# Altium footprint library WE-FI.PcbLib: 47 footprints (part 1 of 3)
Each footprint in its own frame and in the unit in brackets; x right, y up, seen from the top. Pads: shape width x height; smd on the part's side, far side on the other; paste and mask are expansions set on the pad; w line width, h text height; cw(c..) or ccw(c..) is an arc to the next point about the centre after c.
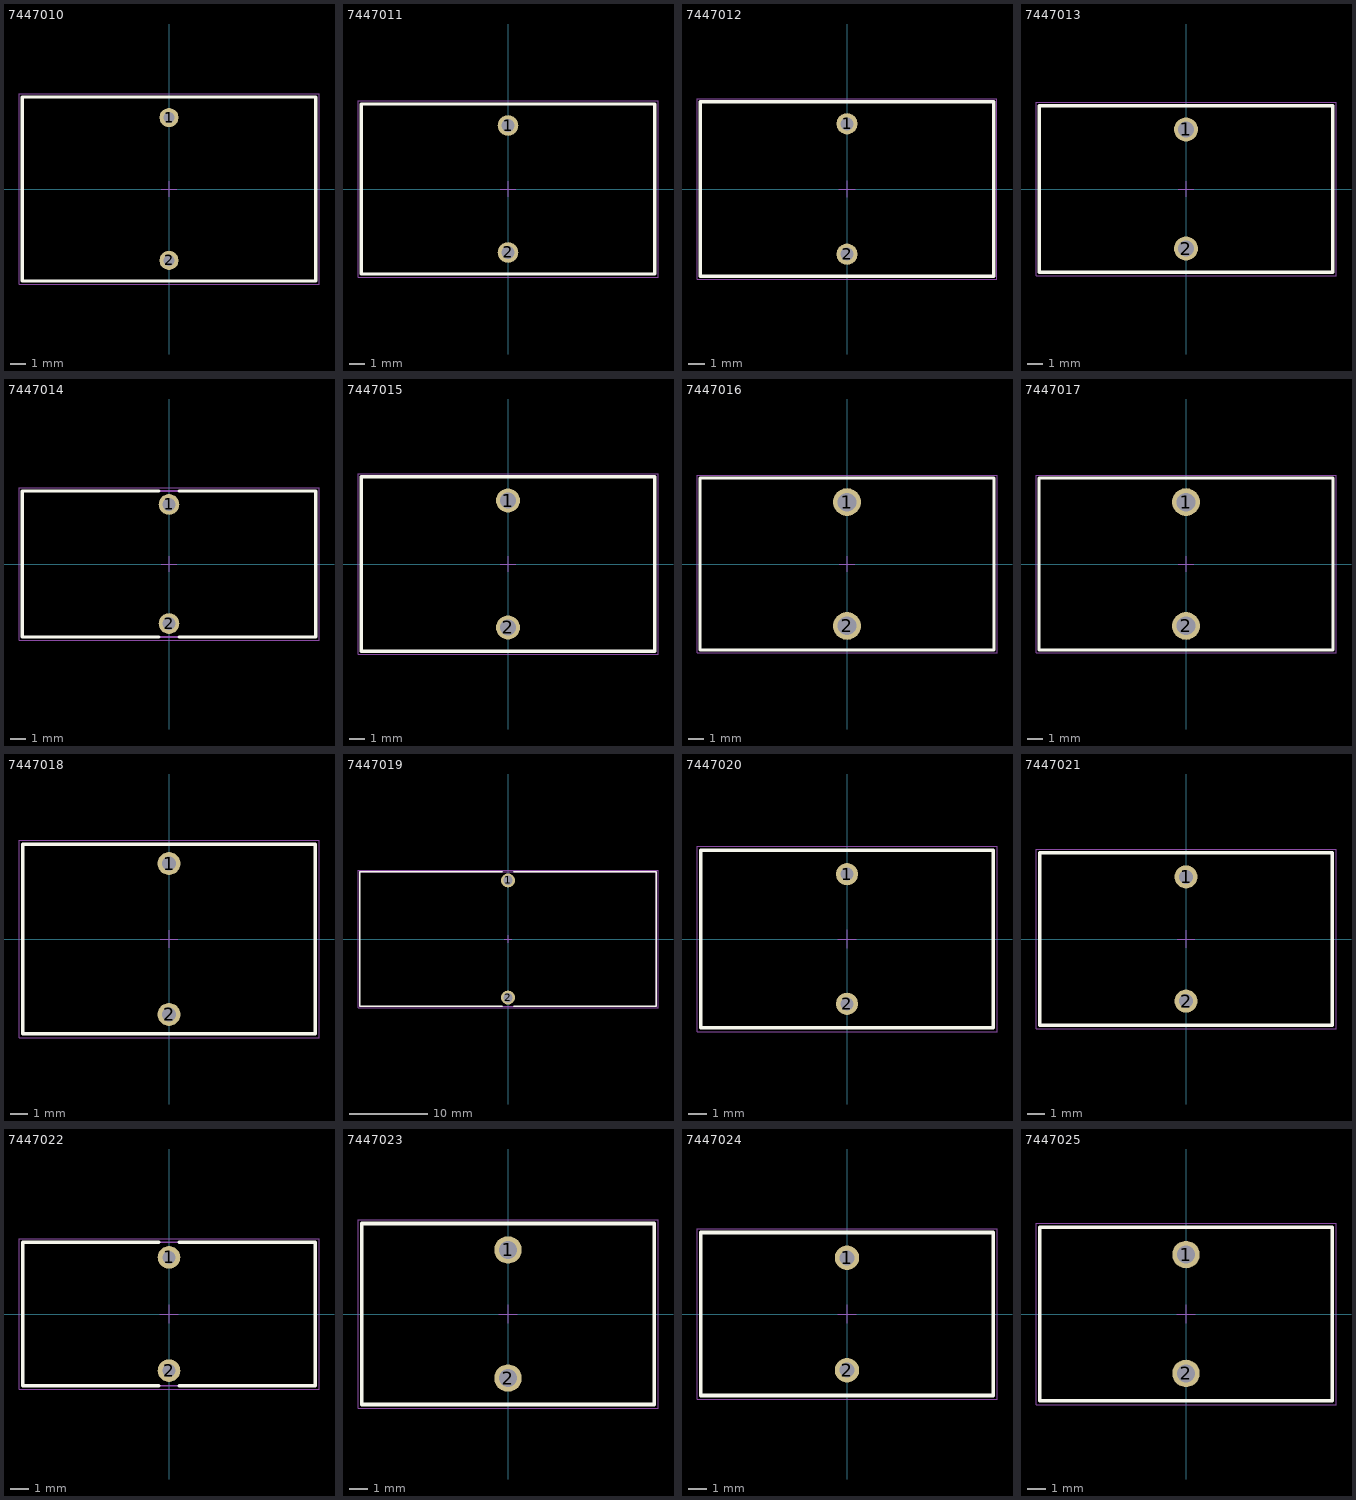
[diagram p0: the footprints below, top view; thin cyan lines are the x and y axes]

## 7447010 [mm] "Leaded Toroidal Line Choke, 2-leads, body 18.5x9.5mm"
height 18.5
pads (2):
  round 1.2 hole 0.7: 1(0,4.5) 2(0,-4.5)
Top Overlay:
  lines w0.2: -9.25,-5.8 9.25,-5.8 9.25,5.8 -9.25,5.8 -9.25,-5.8
Top Designator:
  text ".Designator" at -7.498,-0.5 h1.5
Top Component Outline:
  lines w0.1: -9.25,-5.8 -9.25,5.8 9.25,5.8 9.25,-5.8 -9.25,-5.8
Top 3D Body:
  lines w0.1: -9.25,-5.8 9.25,-5.8 9.25,5.8 -9.25,5.8 -9.25,-5.8
Top Courtyard:
  lines w0.05: -0.5,0 0.5,0 ; 0,-0.5 0,0.5 ; -9.45,-6 -9.45,6 9.45,6 9.45,-6 -9.45,-6
3D body "7447010.stp": height 16.41, standoff -14.89, extent -8.209,-4.749 8.209,4.75

## 7447011 [mm] "Leaded Toroidal Line Choke, 2-leads, body 18.5x10.7"
height 18.5
pads (2):
  round 1.3 hole 0.8: 1(0,4) 2(0,-4)
Top Overlay:
  lines w0.2: -9.25,-5.35 9.25,-5.35 9.25,5.35 -9.25,5.35 -9.25,-5.35
Top Designator:
  text ".Designator" at -7.498,-0.5 h1.5
Top Component Outline:
  lines w0.1: -9.25,-5.35 -9.25,5.35 9.25,5.35 9.25,-5.35 -9.25,-5.35
Top 3D Body:
  lines w0.1: -9.25,-5.35 9.25,-5.35 9.25,5.35 -9.25,5.35 -9.25,-5.35
Top Courtyard:
  lines w0.05: -0.5,0 0.5,0 ; 0,-0.5 0,0.5 ; -9.45,-5.55 -9.45,5.55 9.45,5.55 9.45,-5.55 -9.45,-5.55
3D body "7447011.stp": height 16.41, standoff -14.94, extent -8.31,-4.299 8.309,4.3

## 7447012 [mm] "Leaded Toroidal Line Choke, 2-leads, body 18x10.7mm"
height 18
pads (2):
  round 1.3 hole 0.8: 1(0,4) 2(0,-4)
Top Overlay:
  lines w0.2: -9,-5.35 9,-5.35 9,5.35 -9,5.35 -9,-5.35
Top Designator:
  text ".Designator" at -7.498,-0.5 h1.5
Top Component Outline:
  lines w0.1: -9,-5.35 9,-5.35 9,5.35 -9,5.35 -9,-5.35
Top 3D Body:
  lines w0.1: -9,-5.35 -9,5.35 9,5.35 9,-5.35 -9,-5.35
Top Courtyard:
  lines w0.05: -0.5,0 0.5,0 ; 0,-0.5 0,0.5 ; -9.2,-5.55 9.2,-5.55 9.2,5.55 -9.2,5.55 -9.2,-5.55
3D body "7447012.stp": height 16.41, standoff -14.94, extent -8.31,-4.299 8.309,4.3

## 7447013 [mm] "Leaded Toroidal Line Choke, 2-leads, body 18.5x10.5mm"
height 18.5
pads (2):
  round 1.5 hole 1: 1(0,3.75) 2(0,-3.75)
Top Overlay:
  lines w0.2: -9.25,-5.25 9.25,-5.25 9.25,5.25 -9.25,5.25 -9.25,-5.25
Top Designator:
  text ".Designator" at -7.498,-0.5 h1.5
Top Component Outline:
  lines w0.1: -9.25,-5.25 9.25,-5.25 9.25,5.25 -9.25,5.25 -9.25,-5.25
Top 3D Body:
  lines w0.1: -9.25,-5.25 -9.25,5.25 9.25,5.25 9.25,-5.25 -9.25,-5.25
Top Courtyard:
  lines w0.05: -0.5,0 0.5,0 ; 0,-0.5 0,0.5 ; -9.45,-5.45 9.45,-5.45 9.45,5.45 -9.45,5.45 -9.45,-5.45
3D body "7447013.stp": height 16.81, standoff -14.93, extent -8.509,-4.15 8.51,4.149

## 7447014 [mm] "Leaded Toroidal Line Choke, 2-leads, body 18.5x9.2mm"
height 18.5
pads (2):
  round 1.3 hole 0.8: 1(0,3.75) 2(0,-3.75)
Top Overlay:
  lines w0.2: -0.65,-4.6 -9.25,-4.6 -9.25,4.6 -0.65,4.6 ; 0.65,-4.6 9.25,-4.6 9.25,4.6 0.65,4.6
Top Designator:
  text ".Designator" at -7.498,-0.5 h1.5
Top Component Outline:
  lines w0.1: -9.25,-4.6 -9.25,4.6 9.25,4.6 9.25,-4.6 -9.25,-4.6
Top 3D Body:
  lines w0.1: -9.25,-4.6 9.25,-4.6 9.25,4.6 -9.25,4.6 -9.25,-4.6
Top Courtyard:
  lines w0.05: -0.5,0 0.5,0 ; 0,-0.5 0,0.5 ; -9.45,-4.8 -9.45,4.8 9.45,4.8 9.45,-4.8 -9.45,-4.8
3D body "7447014.stp": height 16.61, standoff -14.74, extent -8.31,-4.049 8.309,4.05

## 7447015 [mm] "Leaded Toroidal Line Choke, 2-leads, body 18.5x11mm"
height 18.5
pads (2):
  round 1.5 hole 1: 1(0,4) 2(0,-4)
Top Overlay:
  lines w0.2: -9.25,-5.5 9.25,-5.5 9.25,5.5 -9.25,5.5 -9.25,-5.5
Top Designator:
  text ".Designator" at -7.498,-0.5 h1.5
Top Component Outline:
  lines w0.1: -9.25,-5.5 -9.25,5.5 9.25,5.5 9.25,-5.5 -9.25,-5.5
Top 3D Body:
  lines w0.1: -9.25,-5.5 9.25,-5.5 9.25,5.5 -9.25,5.5 -9.25,-5.5
Top Courtyard:
  lines w0.05: -0.5,0 0.5,0 ; 0,-0.5 0,0.5 ; -9.45,-5.7 -9.45,5.7 9.45,5.7 9.45,-5.7 -9.45,-5.7
3D body "7447015.stp": height 16.81, standoff -14.93, extent -8.509,-4.399 8.51,4.399

## 7447016 [mm] "Leaded Toroidal Line Choke, 2-leads, body 19x11.1mm"
height 19
pads (2):
  round 1.8 hole 1.2: 1(0,4) 2(0,-4)
Top Overlay:
  lines w0.2: -9.5,-5.55 9.5,-5.55 9.5,5.55 -9.5,5.55 -9.5,-5.55
Top Designator:
  text ".Designator" at -7.498,-0.5 h1.5
Top Component Outline:
  lines w0.1: -9.5,-5.55 9.5,-5.55 9.5,5.55 -9.5,5.55 -9.5,-5.55
Top 3D Body:
  lines w0.1: -9.5,-5.55 -9.5,5.55 9.5,5.55 9.5,-5.55 -9.5,-5.55
Top Courtyard:
  lines w0.05: -0.5,0 0.5,0 ; 0,-0.5 0,0.5 ; -9.7,-5.75 9.7,-5.75 9.7,5.75 -9.7,5.75 -9.7,-5.75
3D body "7447016.stp": height 17.21, standoff -14.81, extent -8.708,-4.5 8.707,4.499

## 7447017 [mm] "Leaded Toroidal Line Choke, 2-leads, body 19x11.1mm"
height 19
pads (2):
  round 1.8 hole 1.2: 1(0,4) 2(0,-4)
Top Overlay:
  lines w0.2: -9.5,-5.55 -9.5,5.55 9.5,5.55 9.5,-5.55 -9.5,-5.55
Top Designator:
  text ".Designator" at -7.498,-0.5 h1.5
Top Component Outline:
  lines w0.1: -9.5,-5.55 -9.5,5.55 9.5,5.55 9.5,-5.55 -9.5,-5.55
Top 3D Body:
  lines w0.1: -9.5,-5.55 9.5,-5.55 9.5,5.55 -9.5,5.55 -9.5,-5.55
Top Courtyard:
  lines w0.05: -0.5,0 0.5,0 ; 0,-0.5 0,0.5 ; -9.7,-5.75 -9.7,5.75 9.7,5.75 9.7,-5.75 -9.7,-5.75
3D body "7447017.stp": height 17.21, standoff -14.81, extent -8.708,-4.5 8.707,4.499

## 7447018 [mm] "Leaded Toroidal Line Choke, 2-leads, body 16.5x10.7mm"
height 16.5
pads (2):
  round 1.3 hole 0.8: 1(0,4.25) 2(0,-4.25)
Top Overlay:
  lines w0.2: -8.25,-5.35 -8.25,5.35 8.25,5.35 8.25,-5.35 -8.25,-5.35
Top Designator:
  text ".Designator" at -7.498,-0.5 h1.5
Top Component Outline:
  lines w0.1: -8.25,-5.35 8.25,-5.35 8.25,5.35 -8.25,5.35 -8.25,-5.35
Top 3D Body:
  lines w0.1: -8.25,-5.35 -8.25,5.35 8.25,5.35 8.25,-5.35 -8.25,-5.35
Top Courtyard:
  lines w0.05: -0.5,0 0.5,0 ; 0,-0.5 0,0.5 ; -8.45,-5.55 8.45,-5.55 8.45,5.55 -8.45,5.55 -8.45,-5.55
3D body "7447018.stp": height 13.96, standoff -14.93, extent -7.06,-4.549 7.06,4.55

## 7447019 [mm] "Leaded Toroidal Line Choke, 2-leads, body 38x17.2mm"
height 38
pads (2):
  round 1.8 hole 1.2: 1(0,7.5) 2(0,-7.5)
Top Overlay:
  lines w0.2: -0.75,-8.6 -19,-8.6 -19,8.6 -0.75,8.6 ; 0.75,-8.6 19,-8.6 19,8.6 0.75,8.6
Top Designator:
  text ".Designator" at -7.498,-0.5 h1.5
Top Component Outline:
  lines w0.1: -19,-8.6 19,-8.6 19,8.6 -19,8.6 -19,-8.6
Top 3D Body:
  lines w0.1: -19,-8.6 -19,8.6 19,8.6 19,-8.6 -19,-8.6
Top Courtyard:
  lines w0.05: -0.5,0 0.5,0 ; 0,-0.5 0,0.5 ; -19.2,-8.8 19.2,-8.8 19.2,8.8 -19.2,8.8 -19.2,-8.8
3D body "7447019.stp": height 35.41, standoff -14.55, extent -17.608,-7.999 17.607,7.999

## 7447020 [mm] "Leaded Toroidal Line Choke, 2-leads, body 15.8x9.6mm"
height 15.8
pads (2):
  round 1.2 hole 0.7: 1(0,3.5) 2(0,-3.5)
Top Overlay:
  lines w0.2: -7.9,-4.8 7.9,-4.8 7.9,4.8 -7.9,4.8 -7.9,-4.8
Top Designator:
  text ".Designator" at -7.498,-0.5 h1.5
Top Component Outline:
  lines w0.1: -7.9,-4.8 -7.9,4.8 7.9,4.8 7.9,-4.8 -7.9,-4.8
Top 3D Body:
  lines w0.1: -7.9,-4.8 7.9,-4.8 7.9,4.8 -7.9,4.8 -7.9,-4.8
Top Courtyard:
  lines w0.05: -0.5,0 0.5,0 ; 0,-0.5 0,0.5 ; -8.1,-5 -8.1,5 8.1,5 8.1,-5 -8.1,-5
3D body "7447020.stp": height 13.96, standoff -14.86, extent -6.96,-3.749 6.96,3.75

## 7447021 [mm] "Leaded Toroidal Line Choke, 2-leads, body 16.5x9.7mm"
height 16.5
pads (2):
  round 1.3 hole 0.8: 1(0,3.5) 2(0,-3.5)
Top Overlay:
  lines w0.2: -8.25,-4.85 8.25,-4.85 8.25,4.85 -8.25,4.85 -8.25,-4.85
Top Designator:
  text ".Designator" at -7.498,-0.5 h1.5
Top Component Outline:
  lines w0.1: -8.25,-4.85 8.25,-4.85 8.25,4.85 -8.25,4.85 -8.25,-4.85
Top 3D Body:
  lines w0.1: -8.25,-4.85 -8.25,4.85 8.25,4.85 8.25,-4.85 -8.25,-4.85
Top Courtyard:
  lines w0.05: -0.5,0 0.5,0 ; 0,-0.5 0,0.5 ; -8.45,-5.05 8.45,-5.05 8.45,5.05 -8.45,5.05 -8.45,-5.05
3D body "7447021.stp": height 13.96, standoff -14.93, extent -7.06,-3.799 7.06,3.8

## 7447022 [mm] "Leaded Toroidal Line Choke, 2-leads, body 15x7.5mm"
height 15
pads (2):
  round 1.2 hole 0.7: 1(0,3) 2(0,-3)
Top Overlay:
  lines w0.2: -0.55,-3.8 -7.75,-3.8 -7.75,3.8 -0.55,3.8 ; 0.55,-3.8 7.75,-3.8 7.75,3.8 0.55,3.8
Top Designator:
  text ".Designator" at -7.498,-0.5 h1.5
Top Component Outline:
  lines w0.1: -7.75,-3.8 7.75,-3.8 7.75,3.8 -7.75,3.8 -7.75,-3.8
Top 3D Body:
  lines w0.1: -7.75,-3.8 -7.75,3.8 7.75,3.8 7.75,-3.8 -7.75,-3.8
Top Courtyard:
  lines w0.05: -0.5,0 0.5,0 ; 0,-0.5 0,0.5 ; -7.95,-4 7.95,-4 7.95,4 -7.95,4 -7.95,-4
3D body "7447022_maxSized.stp": height 15.75, standoff -14.63, extent -7.75,-3.8 7.75,3.8

## 7447023 [mm] "Leaded Toroidal Line Choke, 2-leads, body 16x9.9mm"
height 16
pads (2):
  round 1.5 hole 1: 1(0,3.5) 2(0,-3.5)
Top Overlay:
  lines w0.2: -8,-4.95 -8,4.95 8,4.95 8,-4.95 -8,-4.95
Top Designator:
  text ".Designator" at -7.498,-0.5 h1.5
Top Component Outline:
  lines w0.1: -8,-4.95 -8,4.95 8,4.95 8,-4.95 -8,-4.95
Top 3D Body:
  lines w0.1: -8,-4.95 8,-4.95 8,4.95 -8,4.95 -8,-4.95
Top Courtyard:
  lines w0.05: -0.5,0 0.5,0 ; 0,-0.5 0,0.5 ; -8.2,-5.15 -8.2,5.15 8.2,5.15 8.2,-5.15 -8.2,-5.15
3D body "7447023.stp": height 14.26, standoff -14.92, extent -7.26,-3.899 7.26,3.899

## 7447024 [mm] "Leaded Toroidal Line Choke, 2-leads, body 15.6x8.7mm"
height 15.6
pads (2):
  round 1.3 hole 0.8: 1(0,3) 2(0,-3)
Top Overlay:
  lines w0.2: -7.8,-4.35 7.8,-4.35 7.8,4.35 -7.8,4.35 -7.8,-4.35
Top Designator:
  text ".Designator" at -7.498,-0.5 h1.5
Top Component Outline:
  lines w0.1: -7.8,-4.35 -7.8,4.35 7.8,4.35 7.8,-4.35 -7.8,-4.35
Top 3D Body:
  lines w0.1: -7.8,-4.35 7.8,-4.35 7.8,4.35 -7.8,4.35 -7.8,-4.35
Top Courtyard:
  lines w0.05: -0.5,0 0.5,0 ; 0,-0.5 0,0.5 ; -8,-4.55 -8,4.55 8,4.55 8,-4.55 -8,-4.55
3D body "7447024.stp": height 14.06, standoff -14.83, extent -7.06,-3.299 7.06,3.3

## 7447025 [mm] "Leaded Toroidal Line Choke, 2-leads, body 16x9.5mm"
height 16
pads (2):
  round 1.5 hole 1: 1(0,3.25) 2(0,-3.25)
Top Overlay:
  lines w0.2: -8,-4.75 -8,4.75 8,4.75 8,-4.75 -8,-4.75
Top Designator:
  text ".Designator" at -7.498,-0.5 h1.5
Top Component Outline:
  lines w0.1: -8,-4.75 -8,4.75 8,4.75 8,-4.75 -8,-4.75
Top 3D Body:
  lines w0.1: -8,-4.75 8,-4.75 8,4.75 -8,4.75 -8,-4.75
Top Courtyard:
  lines w0.05: -0.5,0 0.5,0 ; 0,-0.5 0,0.5 ; -8.2,-4.95 -8.2,4.95 8.2,4.95 8.2,-4.95 -8.2,-4.95
3D body "7447025.stp": height 14.26, standoff -14.92, extent -7.26,-3.649 7.26,3.649